# EAGLE library part SPB05 (library MEANWELL_BUCK_CONVERTER)
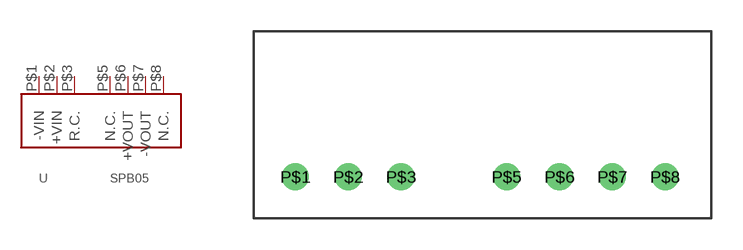
[diagram p0: symbol with the pads of SPB05B-05; footprint SPB05B-05]

Designator prefix -

## SPB05  [SPB05B-05]
P$1  -VIN
P$2  +VIN
P$3  R.C.
P$5  N.C.
P$6  +VOUT
P$7  -VOUT
P$8  N.C.

## Footprint SPB05B-05 (pad centres in mm)
drill 0.8: P$1 0,0; P$2 2.54,0; P$3 5.08,0; P$5 10.16,0; P$6 12.7,0; P$7 15.24,0; P$8 17.78,0